# Altium integrated library ABM3-40.000MHZ-B2-T.IntLib: 1 symbol
Pins are listed as number, name and electrical type; pins without a type are passive.

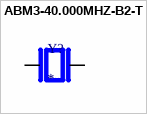
[diagram p0: symbol ABM3-40.000MHZ-B2-T]

## ABM3-40.000MHZ-B2-T
designator Y?
MP: ABM3-40.000MHZ-B2-T; Availability: Unavailable; Package: None; Price: None; Value: *
footprint XTAL_ABM3-40.000MHZ-B2-T
pins: 1, 2